# Altium footprint library recom.PcbLib: 6 footprints
Each footprint in its own frame and in the unit in brackets; x right, y up, seen from the top. Pads: shape width x height; smd on the part's side, far side on the other; paste and mask are expansions set on the pad; w line width, h text height; cw(c..) or ccw(c..) is an arc to the next point about the centre after c.
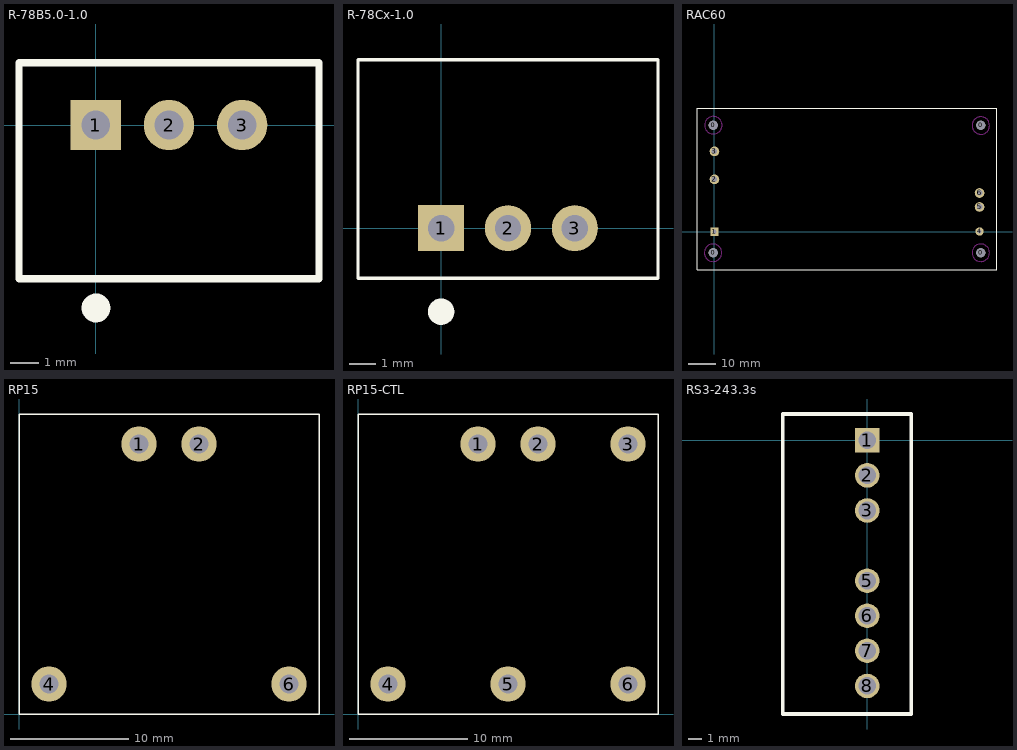
[diagram p0: the footprints below, top view; thin cyan lines are the x and y axes]

## R-78B5.0-1.0 [mm] "6.5 to 34 Vdc In, 5 Vdc Out"
pads (3):
  rect 1.75x1.75 hole 1: 1(0,0)
  round 1.75 hole 1: 2(2.54,0) 3(5.08,0)
Top Overlay:
  circle w0.5: c0.004,-6.35 r0.25
  lines w0.254: -2.667,-5.334 7.747,-5.334 7.747,2.159 -2.667,2.159 -2.667,-5.334

## R-78Cx-1.0 [mm] "12 to 42 Vdc In, 9 Vdc Out"
height 8.5
pads (3):
  rect 1.75x1.75 hole 1: 1(0,0)
  round 1.75 hole 1: 2(2.54,0) 3(5.08,0)
Top Overlay:
  circle w0.5: c0,-3.175 r0.25
  lines w0.127: -3.16,-1.9 -3.16,6.4 8.24,6.4 8.24,-1.9 -3.16,-1.9
3D body: height 12.94, standoff -3.59, extent -3.26,-2.032 8.34,6.468

## RAC60 [mm]
height 30
pads (10):
  round 3.2 hole 3.4 unplated: 0(-0.49,-7.6) 0(-0.49,38.7) 0(96.81,-7.6) 0(96.81,38.7)
  rect 3x3 hole 1.5: 1(0,0)
  round 3.5 hole 2: 2(0,19.05) 3(0,29.21) 5(96.32,9.02) 6(96.32,14.1)
  round 3 hole 1.5: 4(96.32,0.12)
Top Overlay:
  lines w0.254: -6.34,-13.7 102.66,-13.7 102.66,44.8 -6.34,44.8 -6.34,-13.7
Keep-Out Layer:
  circle w0.254: c96.774,38.608 r3.175
  circle w0.254: c96.774,-7.62 r3.175
  circle w0.254: c-0.381,38.735 r3.175
  circle w0.254: c-0.508,-7.62 r3.175

## RP15 [mm] "Recom RP15 Series Supply"
height 9.881
pads (4):
  round 3 hole 1.6: 1(10.16,22.86) 2(15.24,22.86) 4(2.54,2.54) 6(22.86,2.54)
Top Overlay:
  lines w0.127: 0,0 0,25.4 25.4,25.4 25.4,0 0,0
3D body: height 9.93, standoff -5.57, extent 0.127,0 25.527,25.4

## RP15-CTL [mm] "Recom RP15 Series Supply"
height 9.881
pads (6):
  round 3 hole 1.6: 1(10.16,22.86) 2(15.24,22.86) 3(22.86,22.86) 4(2.54,2.54) 5(12.7,2.54) 6(22.86,2.54)
Top Overlay:
  lines w0.127: 0,0 0,25.4 25.4,25.4 25.4,0 0,0
3D body: height 9.93, standoff -5.57, extent 0.127,0 25.527,25.4

## RS3-243.3s [mil] "3.3V Supply"
height 440
pads (7):
  rect 70x70 hole 50: 1(0,0)
  round 70 hole 50: 2(0,-100) 3(0,-200) 5(0,-400) 6(0,-500) 7(0,-600) 8(0,-700)
Top Overlay:
  lines w10: -240,-780 -240,75 125,75 125,-780 -240,-780